# EAGLE library part SWLED (library SW_LED)
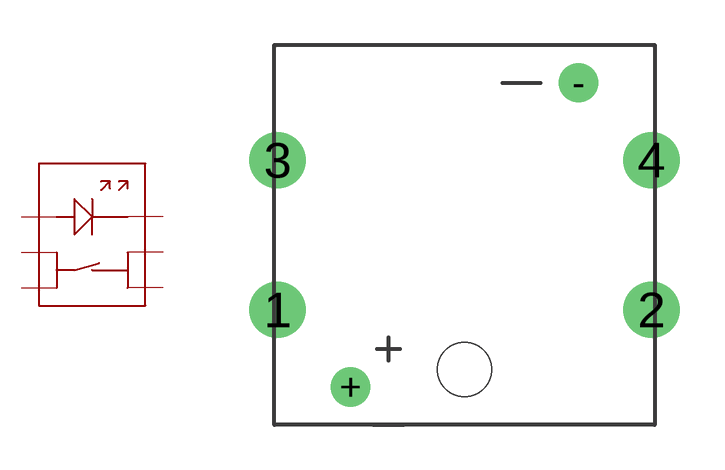
[diagram p0: symbol with the pads of SWLED; footprint SWLED]

Designator prefix -

## SWLED  [SWLED]
1  1
2  2
3  3
4  4
+  LED+
-  LED-

## Footprint SWLED (pad centres in mm)
drill 1.25: 1 -6.25,-2.5; 2 6.25,-2.5; 3 -6.25,2.5; 4 6.25,2.5
drill 0.8: + -3.81,-5.08; - 3.81,5.08
hole 1.8 at 0,-4.5